# EAGLE library part CON-8P (library degson)
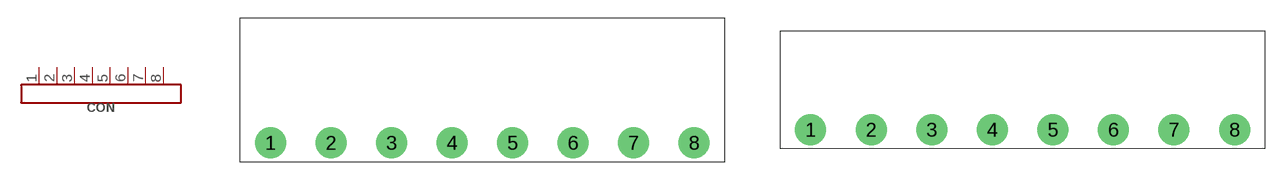
[diagram p4: symbol with the pads of 2EDGR-5.08-08P; footprints 2EDGR-5.08-08P, 15EDGRC-5.08-08P]

Designator prefix CON

## CON-8P-2EDGR-5.08 (MANF: Degson Electronics; MANF#: 2EDGR-5.08-08P-14-00A(H); TYPE: 2EDGR-5.08)  [2EDGR-5.08-08P]
1  1
2  2
3  3
4  4
5  5
6  6
7  7
8  8

## CON-8P-15EDGRC-5.08 (MANF: Degson Electronics; MANF#: 15EDGRC-5.08-08P-14-00A(H); TYPE: 15EDGRC-5.08)  [15EDGRC-5.08-08P]
Pads as for 2EDGR-5.08-08P

## CON-8P-DG141R-2.54 (MANF: Degson Electronics; MANF#: DG141R-2.54-08P; TYPE: DG141R-2.54)  [DG141R-2.54-08P]
1  1
1@1  1
2  2
2@1  2
3  3
3@1  3
4  4
4@1  4
5  5
5@1  5
6  6
6@1  6
7  7
7@1  7
8  8
8@1  8

## CON-8P-DG141V-2.54 (MANF: Degson Electronics; MANF#: DG141V-2.54-08P; TYPE: DG141V-2.54)  [DG141V-2.54-08P]
Pads as for DG141R-2.54-08P

## CON-8P-DG500-5.08 (MANF: Degson Electronics; MANF#: DG-500-5.08-08P-14; TYPE: DG-500-5.08)  [DG500-5.08-08P]
Pads as for 2EDGR-5.08-08P

## Footprint 2EDGR-5.08-08P (pad centres in mm)
drill 1.6 pad 2.6: 1 -17.78,0; 2 -12.7,0; 3 -7.62,0; 4 -2.54,0; 5 2.54,0; 6 7.62,0; 7 12.7,0; 8 17.78,0

## Footprint 15EDGRC-5.08-08P (pad centres in mm)
drill 1.6 pad 2.6: 1 -17.78,0; 2 -12.7,0; 3 -7.62,0; 4 -2.54,0; 5 2.54,0; 6 7.62,0; 7 12.7,0; 8 17.78,0

## Footprint DG141R-2.54-08P (pad centres in mm)
Datasheet <DG141R-2.54>
drill 1 pad 1.7: 1 -10.16,2.54; 1@1 -10.16,-2.54; 2 -7.62,2.54; 2@1 -7.62,-2.54; 3 -5.08,2.54; 3@1 -5.08,-2.54; 4 -2.54,2.54; 4@1 -2.54,-2.54; 5 0,2.54; 5@1 0,-2.54; 6 2.54,2.54; 6@1 2.54,-2.54; 7 5.08,2.54; 7@1 5.08,-2.54; 8 7.62,2.54; 8@1 7.62,-2.54

## Footprint DG141V-2.54-08P (pad centres in mm)
Datasheet <DG141R-2.54>
drill 1 pad 1.7: 1 -8.89,2.54; 1@1 -8.89,-2.54; 2 -6.35,2.54; 2@1 -6.35,-2.54; 3 -3.81,2.54; 3@1 -3.81,-2.54; 4 -1.27,2.54; 4@1 -1.27,-2.54; 5 1.27,2.54; 5@1 1.27,-2.54; 6 3.81,2.54; 6@1 3.81,-2.54; 7 6.35,2.54; 7@1 6.35,-2.54; 8 8.89,2.54; 8@1 8.89,-2.54

## Footprint DG500-5.08-08P (pad centres in mm)
3D model <https://grabcad.com/library/dg500-5-08-terminal-blocks-1>
drill 1.4: 1 -17.78,0; 2 -12.7,0; 3 -7.62,0; 4 -2.54,0; 5 2.54,0; 6 7.62,0; 7 12.7,0; 8 17.78,0